# EAGLE library part AS5047 (library ams)
ROTARY ENCODER 14-bit On-Axis Magnetic Rotary Position Sensor 12-Bit Decimal & Binary Incremental Pulse Count 28krpm high speed capability
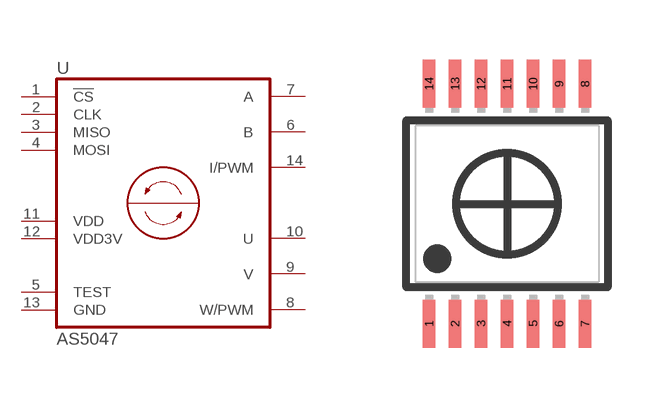
[diagram p0: symbol with the pads of TSSOP14; footprint TSSOP14]

Designator prefix U

## AS5047P  [TSSOP14]
1  !CS!  in
2  CLK  in
3  MISO  out
4  MOSI  in
5  TEST  in
6  B  out
7  A  out
8  W/PWM  out
9  V  out
10  U  out
11  VDD  pwr
12  VDD3V  pwr
13  GND  pwr
14  I/PWM  out

## Footprint TSSOP14 (pad centres in mm)
Thin Shrink Small Outline Plastic 14
smd 0.305 x 1.2: 1 -1.95,-3; 2 -1.3,-3; 3 -0.65,-3; 4 0,-3; 5 0.65,-3; 6 1.3,-3; 7 1.95,-3; 8 1.95,3; 9 1.3,3; 10 0.65,3; 11 0,3; 12 -0.65,3; 13 -1.3,3; 14 -1.95,3